# Altium footprint library DIOM5226X262N.PcbLib: 1 footprints
Each footprint in its own frame and in the unit in brackets; x right, y up, seen from the top. Pads: shape width x height; smd on the part's side, far side on the other; paste and mask are expansions set on the pad; w line width, h text height; cw(c..) or ccw(c..) is an arc to the next point about the centre after c.
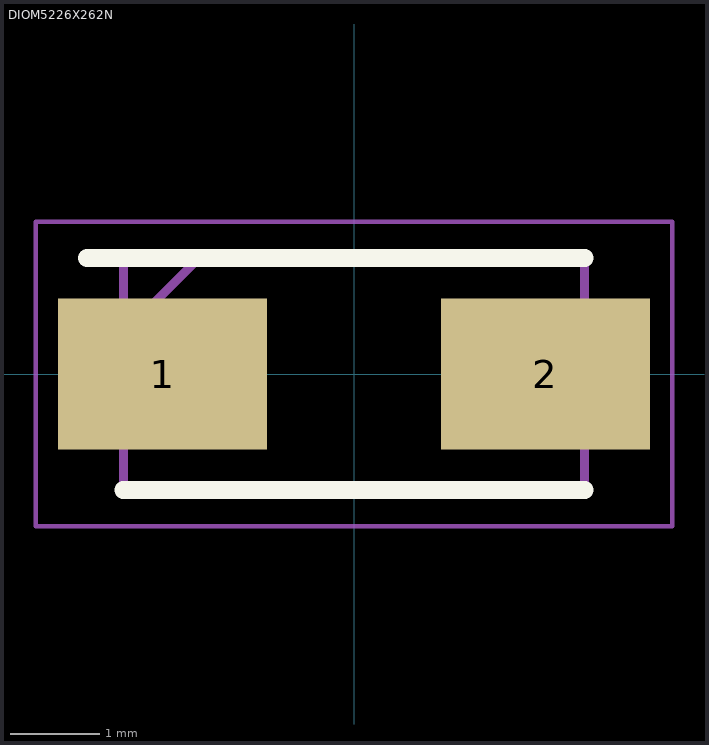
[diagram p0: the footprint, top view; thin cyan lines are the x and y axes]

## DIOM5226X262N [mm]
pads (2):
  rect 2.35x1.7 smd: 1(-2.15,0) 2(2.15,0)
Top Overlay:
  lines w0.2: -3,1.302 2.592,1.302 ; -2.592,-1.302 2.592,-1.302
Mechanical 15:
  lines w0.1: -2.592,0.452 -1.742,1.302 ; -2.592,-1.302 2.592,-1.302 2.592,1.302 -2.592,1.302 -2.592,-1.302
Mechanical 20:
  lines w0.05: -3.575,-1.71 3.575,-1.71 3.575,1.71 -3.575,1.71 -3.575,-1.71
3D body "CMSH3-40MA_TR13_PBFREE.stp": height 5.8, standoff -4.65, extent -10,-3.376 10,3.376